# EAGLE library part SC185 (library ic-Semtech)
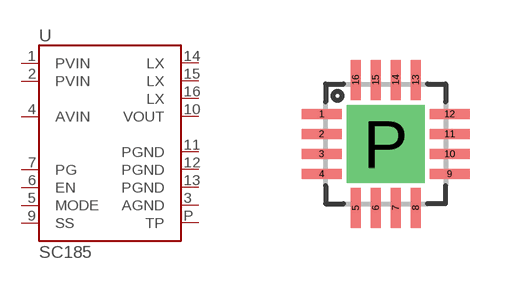
[diagram p0: symbol with the pads of QFN16-0.5; footprint QFN16-0.5]

Designator prefix U

## SC185E (VOLTAGE: 1.2), SC185Q (VOLTAGE: 3.3)  [QFN16-0.5]
1  PVIN
2  PVIN
3  AGND
4  AVIN
5  MODE
6  EN
7  PG
9  SS
10  VOUT
11  PGND
12  PGND
13  PGND
14  LX
15  LX
16  LX
P  TP

## Footprint QFN16-0.5 (pad centres in mm)
smd 1 x 0.25: 1 -1.6,0.75; 2 -1.6,0.25; 3 -1.6,-0.25; 4 -1.6,-0.75; 9 1.6,-0.75; 10 1.6,-0.25; 11 1.6,0.25; 12 1.6,0.75
smd 0.25 x 1: 5 -0.75,-1.6; 6 -0.25,-1.6; 7 0.25,-1.6; 8 0.75,-1.6; 13 0.75,1.6; 14 0.25,1.6; 15 -0.25,1.6; 16 -0.75,1.6
drill 1.3 pad 1.7 square: P 0,0